# Altium schematic symbol library Bootcamp SchLib.SchLib: 28 symbols
Pins are listed as number, name and electrical type; pins without a type are passive.

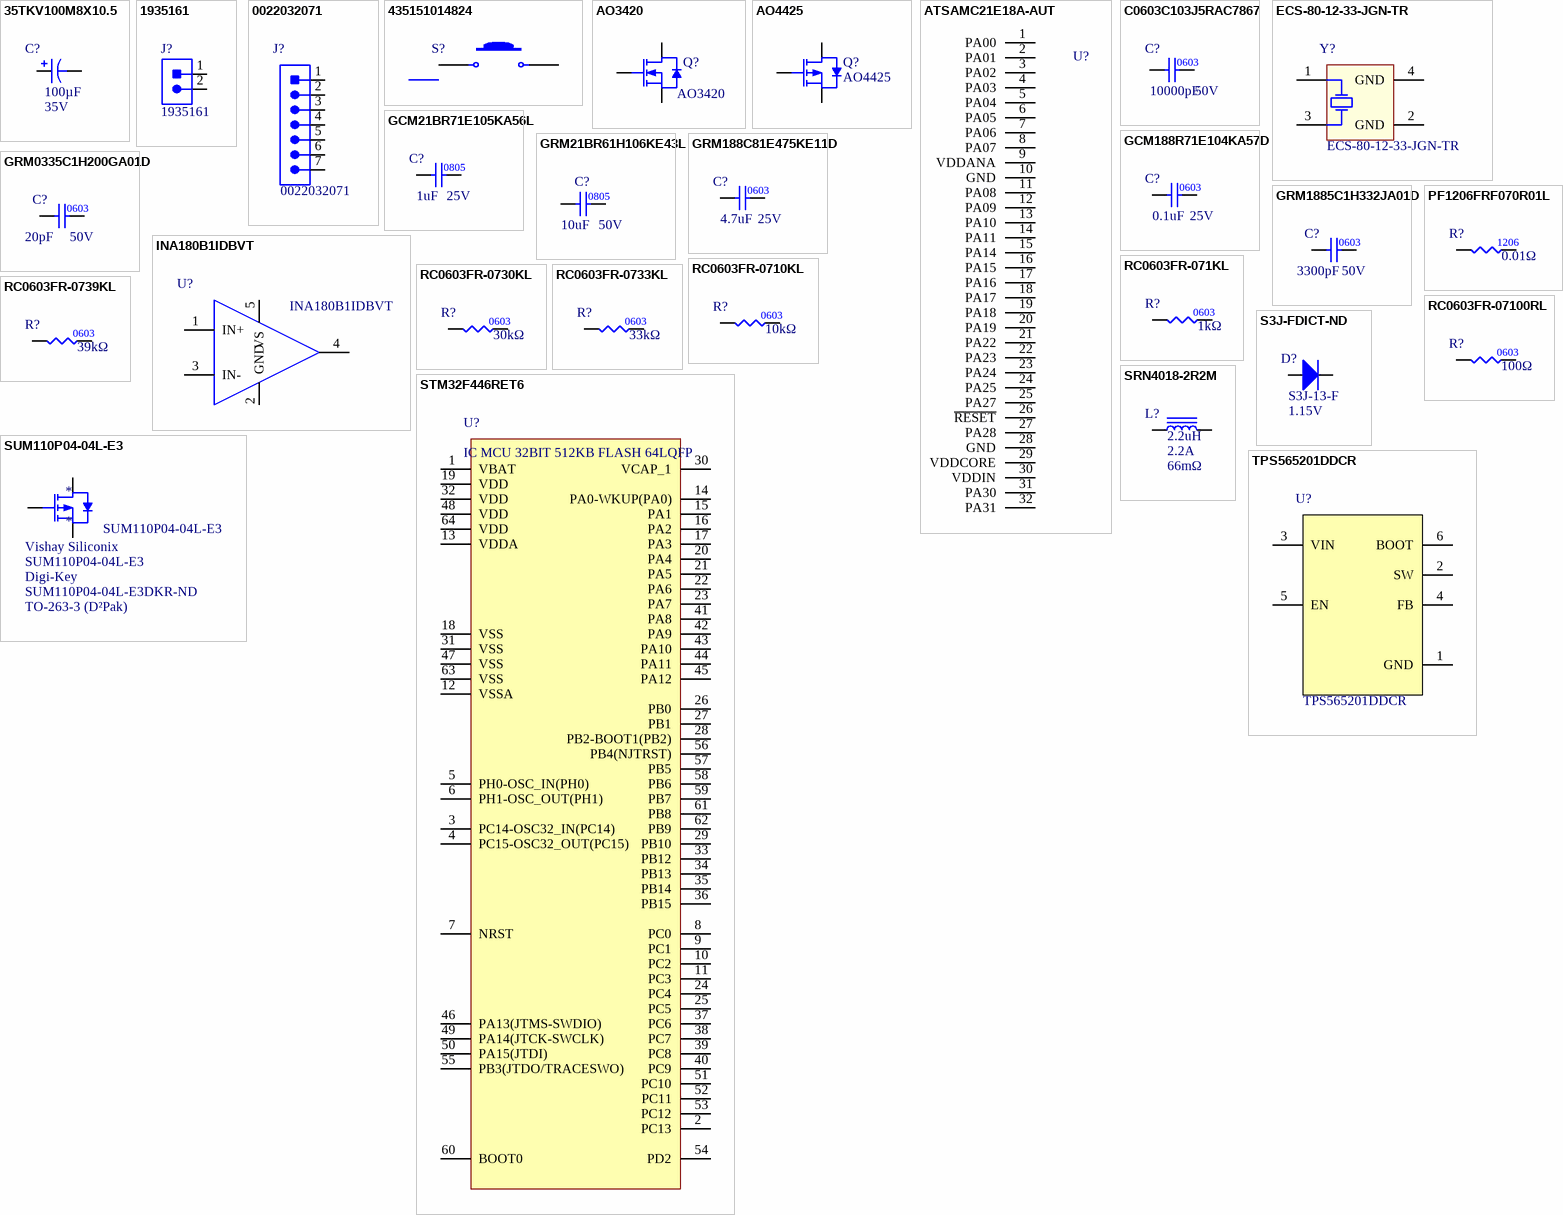
[diagram p0: symbols 35TKV100M8X10.5 to TPS565201DDCR]

## 35TKV100M8X10.5
designator C?, comment value 100µF  Voltage Rating: 35V  (hidden comment: CAP ALUM 100UF 20% 35V SMD)
Manufacturer 1: Rubycon; Manufacturer Part Number 1: 35TKV100M8X10.5; Mounting Type: SMD; Supplier 1: Digi-Key; Supplier Part Number 1: 1189-2074-1-ND; Tolerance: ±20%
footprint RADIAL_CORNELL_D (Size D radial surface mount capacitor)
pins: 1, 2

## 1935161
designator J?, comment Manufacturer Part Number 1: 1935161  (hidden comment: CON_2POS_SCREW_TERM)
CONN SCREW TERMINAL 2X1 5MM RA TH; Manufacturer 1: Phoenix Contact; Supplier 1: Digi-Key; Mounting Type: TH; Supplier Part Number 1: 277-1667-ND; Pitch: 5mm
footprint 1935161 (TERM BLK 2POS SIDE ENTRY 5MM PCB)
pins: 1, 2

## 0022032071
designator J?, comment Manufacturer Part Number 1: 0022032071  (hidden comment: CONN HEADER VERT 7POS 2.54MM)
Manufacturer 1: Molex; Number of Positions: 7; Mounting Type: Through Hole; Pitch: 2.54mm; Number of Rows: 1; Connector Type: Header; Contact Type: Male Pin; Supplier 1: Digi-Key; Supplier Part Number 1: WM4005-ND
footprint 0022284070 (CONN HEADER VERT 7POS 2.54MM)
pins: 1, 2, 3, 4, 5, 6, 7

## 435151014824
designator S?  (value not drawn)
SMT 3.0 X 2.6 MM TACT SWITCH WIT; Manufacturer 1: Würth Elektronik; Supplier 1: Digi-Key; Supplier Part Number 1: 732-435151014824CT-ND; Manufacturer Part Number 1: 435151014824
footprint 435151014824
pins: 1, 2

## AO3420
designator Q?, comment Manufacturer Part Number 1: AO3420  (hidden comment: MOSFET N-CH 20V 6A SOT23-3L)
Manufacturer 1: Alpha & Omega Semiconductor Inc.; Gate to Source Voltage (Vgs) Max. @ Vgs = 4.5V: ±12V; FET Type: N-Channel; Drain to Source Resistance On (Rds(on)) Max.: 24mΩ; Gate to Source Voltage Threshold (Vgs(th)) Max.: 1V; Supplier 1: Digi-Key; Supplier Part Number 1: 785-1014-1-ND; Drain to Source Voltage (Vdss) Max.: 20V; Mounting Type: SMD; Package: SOT23-3; Continuous Drain Current (Id) TA=25°C: 6A
footprint SOT23-3 (SOT23, 3-Leads, Body 2.90x2.30mm, Pitch 0.95mm, IPC Medium Density)
pins: 1 Source, 2 Gate, 3 Drain

## AO4425
designator Q?, comment Manufacturer Part Number 1: AO4425  (hidden comment: MOSFET P-CH 38V 14A 8SOIC)
Manufacturer 1: Alpha & Omega Semiconductor Inc.; Drain to Source Voltage (Vdss) Max.: -38V; Gate to Source Voltage (Vgs): ±25V; Continuous Drain Current (Id): -14A; Drain to Source Resistance (Rds(on)) Max.: 13.5mΩ; Gate Charge Total: 63nC; Gate Threshold Voltage (Vgs(th)): -3.5V; Supplier 1: Digi-Key; Supplier Part Number 1: 785-1026-1-ND; Package: 8-SOIC
footprint 8-SOIC (8-SOIC (0.154", 3.90mm Width))
pins: 1 Source, 2 Gate, 3 Drain

## ATSAMC21E18A-AUT
designator U?, comment IC MCU 32BIT 256KB FLASH 32TQFP  (value not drawn)
Manufacturer 1: Microchip Technology; Supplier Part Number 1: ATSAMC21E18A-AUTCT-ND; Supplier 1: Digi-Key
footprint SOT23-5
pins: 1 PA00, 2 PA01, 3 PA02, 4 PA03, 5 PA04, 6 PA05, 7 PA06, 8 PA07, 9 VDDANA, 10 GND, 11 PA08, 12 PA09, 13 PA10, 14 PA11, 15 PA14, 16 PA15, 17 PA16, 18 PA17, 19 PA18, 20 PA19, 21 PA22, 22 PA23, 23 PA24, 24 PA25, 25 PA27, 26 ~{RESET}, 27 PA28, 28 GND, 29 VDDCORE, 30 VDDIN, 31 PA30, 32 PA31

## C0603C103J5RAC7867
designator C?, comment value 10000pF  Voltage Rating: 50V  (hidden comment: CAP CER 10000PF 50V X7R 0603)
Manufacturer 1: KEMET; Manufacturer Part Number 1: C0603C103J5RAC7867; Tolerance: ±5%; Package: 0603; Mounting Type: SMD; Temperature Coefficient: X7R; Supplier 1: Digi-Key; Supplier Part Number 1: 399-C0603C103J5RAC7867CT-ND
footprint CAP0603 (CAP0603 SMD)
pins: 1, 2

## ECS-80-12-33-JGN-TR
designator Y?, comment Manufacturer Part Number 1: ECS-80-12-33-JGN-TR  (hidden comment: CRYSTAL 8MHZ 12PF SMD)
8 MHz ±20ppm Crystal 12pF 400 Ohms 4-SMD; Manufacturer 1: ECS Inc.; Frequency Tolerance: ±10ppm; Load Capacitance: 10pF; Equivalent Series Resistance: 50Ω; Supplier Part Number 1: XC3065CT-ND; Supplier 1: Digi-Key; Frequency: 8MHz; Frequency Stability: ±20ppm
pins: 1 IN/OUT, 2 GND (power), 3 OUT/IN, 4 GND

## GCM21BR71E105KA56L
designator C?, comment value 1uF  Voltage: 25V  (hidden comment: CAP CER 1UF 25V X7R ±10% 0805)
Manufacturer Part Number 1: GCM21BR71E105KA56L; Manufacturer 1: Murata Electronics; Supplier 1: Digi-Key; Supplier Part Number 1: 490-4785-1-ND; Temperature Coefficient: X7R; Tolerance: ±10%; Mounting Type: SMD; Package: 0805
footprint CAP0805 (CAP0805 SMD)
pins: 1, 2

## GCM188R71E104KA57D
designator C?, comment value 0.1uF  Voltage: 25V  (hidden comment: CAP CER 0.1UF 25V X7R ±10% 0603)
Manufacturer Part Number 1: GCM188R71E104KA57D; Manufacturer 1: Murata Electronics; Supplier 1: Digi-Key; Supplier Part Number 1: 490-6051-1-ND; Temperature Coefficient: X7R; Package: 0603; Tolerance: ±10%; Mounting Type: SMD
footprint CAP0603 (CAP0603 SMD)
pins: 1, 2

## GRM21BR61H106KE43L
designator C?, comment value 10uF  Voltage: 50V  (hidden comment: CAP CER 10UF 50V X5R ±10% 0805)
Manufacturer 1: Murata Electronics; Manufacturer Part Number 1: GRM21BR61H106KE43L; Supplier 1: Digi-Key; Supplier Part Number 1: 490-18663-1-ND; Temperature Coefficient: X5R; Package: 0805; Mounting Type: Surface Mount; Tolerance: ±10%
footprint CAP0805 (CAP0805 SMD)
pins: 1, 2

## GRM188C81E475KE11D
designator C?, comment value 4.7uF  Voltage: 25V  (hidden comment: CAP CER 4.7UF 25V X6S ±10% 0603)
Manufacturer Part Number 1: GRM188C81E475KE11D; Manufacturer 1: Murata Electronics; Supplier 1: Digi-Key; Supplier Part Number 1: 490-7199-1-ND; Tolerance: ±10%; Temperature Coefficient: X6S; Mounting Type: SMD; Package: 0603
footprint CAP0603 (CAP0603 SMD)
pins: 1, 2

## GRM0335C1H200GA01D
designator C?, comment value 20pF  Voltage Rating: 50V  (hidden comment: CAP CER 20PF 50V C0G/NP0 0201)
Manufacturer 1: Murata Electronics; Manufacturer Part Number 1: GRM1885C1H332JA01D; Tolerance: ±5%; Temperature Coefficient: C0G; Supplier 1: Digi-Key; Mounting Type: SMD; Package: 0603; ComponentLink1URL: https://datasheet.ciiva.com/6270/product-6270530.pdf?src-supplier=Digi-Key; ComponentLink1Description: https://datasheet.ciiva.com/6270/product-6270530.pdf?src-supplier=Digi-Key; ComponentLink2URL: https://datasheet.ciiva.com/29202/450783-da-01-en-vs-kondensator-0603-29202805.pdf?src-supplier=Conrad; ComponentLink2Description: https://datasheet.ciiva.com/29202/450783-da-01-en-vs-kondensator-0603-29202805.pdf?src-supplier=Conrad; ComponentLink3URL: https://datasheet.ciiva.com/5417/product-5417082.pdf?src-supplier=Mouser; ComponentLink3Description: https://datasheet.ciiva.com/5417/product-5417082.pdf?src-supplier=Mouser; Supplier Part Number 1: 490-6385-1-ND
footprint CAP0603 (Ceramic Capacitor 0603)
pins: 1, 2

## GRM1885C1H332JA01D
designator C?, comment value 3300pF  Voltage Rating: 50V  (hidden comment: CAP CER 3300PF 50V C0G/NP0 0603)
Manufacturer 1: Murata Electronics; Manufacturer Part Number 1: GRM1885C1H332JA01D; Tolerance: ±5%; Temperature Coefficient: C0G; Supplier 1: Digi-Key; Mounting Type: SMD; Package: 0603; ComponentLink1URL: https://datasheet.ciiva.com/6270/product-6270530.pdf?src-supplier=Digi-Key; ComponentLink1Description: https://datasheet.ciiva.com/6270/product-6270530.pdf?src-supplier=Digi-Key; ComponentLink2URL: https://datasheet.ciiva.com/29202/450783-da-01-en-vs-kondensator-0603-29202805.pdf?src-supplier=Conrad; ComponentLink2Description: https://datasheet.ciiva.com/29202/450783-da-01-en-vs-kondensator-0603-29202805.pdf?src-supplier=Conrad; ComponentLink3URL: https://datasheet.ciiva.com/5417/product-5417082.pdf?src-supplier=Mouser; ComponentLink3Description: https://datasheet.ciiva.com/5417/product-5417082.pdf?src-supplier=Mouser; Supplier Part Number 1: 490-6385-1-ND
footprint CAP0603 (Ceramic Capacitor 0603)
pins: 1, 2

## INA180B1IDBVT
designator U?, comment Manufacturer Part Number 1: INA180B1IDBVT  (hidden comment: IC CURR SENSE 1 CIRCUIT SOT23-5)
Manufacturer 1: Texas Instruments; Supplier Part Number 1: 296-46631-1-ND; Supplier 1: Digi-Key
footprint SOT23-5
pins: 1 IN+, 2 GND, 3 IN-, 4 OUT, 5 VS (power)

## PF1206FRF070R01L
designator R?, comment value 0.01Ω  (hidden comment: RES 0.01 OHM 1% 1/4W 1206)
Manufacturer Part Number 1: PF1206FRF070R01L; Manufacturer 1: YAGEO; Supplier 1: Digi-Key; Supplier Part Number 1: 311-0.01AJCT-ND; Package: 1206; Tolerance: ±1%; Power Rating: 1/4W; Mounting Type: SMD
footprint RES1206 (RES1206 SMD)
pins: 1, 2

## RC0603FR-071KL
designator R?, comment value 1kΩ  (hidden comment: RES 1K OHM 1% 1/10W 0603)
Manufacturer Part Number 1: RC0603FR-071KL; Manufacturer 1: YAGEO; Supplier 1: Digi-Key; Supplier Part Number 1: 311-1.00KHRCT-ND; Package: 0603; Tolerance: ±1%; Power Rating: 1/10W; Mounting Type: SMD
footprint RES0603 (RES0603 SMD)
pins: 1, 2

## RC0603FR-0710KL
designator R?, comment value 10kΩ  (hidden comment: RES 10K OHM 1% 1/10W 0603)
Manufacturer Part Number 1: RC0603FR-0710KL; Manufacturer 1: YAGEO; Supplier 1: Digi-Key; Supplier Part Number 1: 311-10.0KHRCT-ND; Package: 0603; Tolerance: ±1%; Power Rating: 1/10W; Mounting Type: SMD
footprint RES0603 (RES0603 SMD)
pins: 1, 2

## RC0603FR-0730KL
designator R?, comment value 30kΩ  (hidden comment: RES 30K OHM 1% 1/10W 0603)
Manufacturer Part Number 1: RC0603FR-0730KL; Manufacturer 1: YAGEO; Supplier 1: Digi-Key; Supplier Part Number 1: 311-30.0KHRCT-ND; Package: 0603; Tolerance: ±1%; Power Rating: 1/10W; Mounting Type: SMD
footprint RES0603 (RES0603 SMD)
pins: 1, 2

## RC0603FR-0733KL
designator R?, comment value 33kΩ  (hidden comment: RES 33K OHM 1% 1/10W 0603)
Manufacturer Part Number 1: RC0603FR-0730KL; Manufacturer 1: YAGEO; Supplier 1: Digi-Key; Supplier Part Number 1: 311-30.0KHRCT-ND; Package: 0603; Tolerance: ±1%; Power Rating: 1/10W; Mounting Type: SMD
footprint RES0603 (RES0603 SMD)
pins: 1, 2

## RC0603FR-0739KL
designator R?, comment value 39kΩ  (hidden comment: RES 39K OHM 1% 1/10W 0603)
Manufacturer Part Number 1: RC0603FR-0730KL; Manufacturer 1: YAGEO; Supplier 1: Digi-Key; Supplier Part Number 1: 311-30.0KHRCT-ND; Package: 0603; Tolerance: ±1%; Power Rating: 1/10W; Mounting Type: SMD
footprint RES0603 (RES0603 SMD)
pins: 1, 2

## RC0603FR-07100RL
designator R?, comment value 100Ω  (hidden comment: RES 100 OHM 1% 1/10W 0603)
Manufacturer Part Number 1: RC0603FR-07100RL; Manufacturer 1: YAGEO; Supplier 1: Digi-Key; Supplier Part Number 1: 311-100HRCT-ND; Package: 0603; Tolerance: ±1%; Power Rating: 1/10W; Mounting Type: SMD
footprint RES0603 (RES0603 SMD)
pins: 1, 2

## S3J-FDICT-ND
designator D?, comment Forward Voltage: 1.15V  Manufacturer Part Number 1: S3J-13-F  (hidden comment: DIODE GEN PURP 600V 3A SMC)
Manufacturer 1: Diodes Incorporated; Reverse Leakage Current: 10 μA @ 600V; Package: SMC; Mounting Type: Surface Mount; Supplier Part Number 1: S3J-FDICT-ND; Continuous Reverse Voltage (Max): 600V; Average Rectified Current: 3A; Supplier 1: Digi-Key
footprint SMC
pins: 1 A, 2 K

## SRN4018-2R2M
designator L?, comment value 2.2uH  Current Rating: 2.2A  DC Resistance: 66mΩ  (hidden comment: FIXED IND 2.2UH 2.9A 44 MOHM SMD)
Manufacturer 1: Bourns Inc.; Manufacturer Part Number 1: SRN4018-3R3M; Supplier 1: Digi-Key; Supplier Part Number 1: SRN4018-3R3MCT-ND; Mounting Type: SMD
pins: 1, 2

## STM32F446RET6
designator U?, comment IC MCU 32BIT 512KB FLASH 64LQFP
Manufacturer 1: STMicroelectronics; Manufacturer Part Number 1: STM32F446RET6; Supplier 1: Digi-Key; Supplier Part Number 1: 497-15376-ND
footprint STM_LQFP64_N (Thin QFP, 64-Leads, Body 10x10mm, Pitch 0.5mm, IPC Medium Density)
pins: 1 VBAT, 2 PC13 "PC13/EVENTOUT/TAMP_1/WKUP1", 3 PC14-OSC32_IN(PC14) "PC14/EVENTOUT/OSC32_IN", 4 PC15-OSC32_OUT(PC15) "PC15/EVENTOUT/OSC32_OUT", 5 PH0-OSC_IN(PH0) "PH0/EVENTOUT/OSC_IN", 6 PH1-OSC_OUT(PH1) "PH1/EVENTOUT/OSC_OUT", 7 NRST, 8 PC0 "PC0/SAI1_MCLK_B,OTG_HS_ULPI_STP,FMC_SDNWE,EVENTOUT/ADC123_IN10", 9 PC1 "PC1/SPI3_MOSI/I2S3_SD,SAI1_SD_A,SPI2_MOSI/I2S2_SD,EVENTOUT/ADC123_IN11", 10 PC2 "PC2/SPI2_MISO,OTG_HS_ULPI_DIR,FMC_SDNE0,EVENTOUT/ADC123_IN12", 11 PC3 "PC3/SPI2_MOSI/I2S2_SD,OTG_HS_ULPI_NXT,FMC_SDCKE0,EVENTOUT/ADC123_IN13", 12 VSSA, 13 VDDA, 14 PA0-WKUP(PA0) "PA0-WKUP(PA0)/TIM2_CH1/TIM2_ETR,TIM5_CH1,TIM8_ETR,USART2_CTS,UART4_TX,EVENTOUT/ADC123_IN0,WKUP0/TAMP_2", 15 PA1 "PA1/TIM2_CH2,TIM5_CH2,USART2_RTS,UART4_RX,QUADSPI_BK1_IO3,SAI2_MCLK_B,EVENTOUT/ADC123_IN1", 16 PA2 "PA2/TIM2_CH3,TIM5_CH3,TIM9_CH1,USART2_TX,SAI2_SCK_B,EVENTOUT/ADC123_IN2", 17 PA3 "PA3/TIM2_CH4,TIM5_CH4,TIM9_CH2,SAI1_FS_A,USART2_RX,OTG_HS_ULPI_D0,EVENTOUT/ADC123_IN3", 18 VSS, 19 VDD, 20 PA4 "PA4/SPI1_NSS/I2S1_WS,SPI3_NSS/I2S3_WS,USART2_CK,OTG_HS_SOF,DCMI_HSYNC,EVENTOUT/ADC12_IN4,DAC_OUT1", 21 PA5 "PA5/TIM2_CH1/TIM2_ETR,TIM8_CH1N,SPI1_SCK/I2S1_CK,OTG_HS_ULPI_CK,EVENTOUT/ADC12_IN5,DAC_OUT2", 22 PA6 "PA6/TIM1_BKIN,TIM3_CH1,TIM8_BKIN,SPI1_MISO,I2S2_MCK,TIM13_CH1,DCMI_PIXCLK,EVENTOUT/ADC12_IN6", 23 PA7 "PA7/TIM1_CH1N,TIM3_CH2,TIM8_CH1N,SPI1_MOSI/I2S1_SD,TIM14_CH1,FMC_SDNWE,EVENTOUT/ADC12_IN7", 24 PC4 "PC4/I2S1_MCK,SPDIFRX_IN2,FMC_SDNE0,EVENTOUT/ADC12_IN14", 25 PC5 "PC5/USART3_RX,SPDIFRX_IN3,FMC_SDCKE0,EVENTOUT/ADC12_IN15", 26 PB0 "PB0/TIM1_CH2N,TIM3_CH3,TIM8_CH2N,SPI3_MOSI/I2S3_SD,UART4_CTS,OTG_HS_ULPI_D1,SDIO_D1,EVENTOUT/ADC12_IN8", 27 PB1 "PB1/TIM1_CH3N,TIM3_CH4,TIM8_CH3N,OTG_HS_ULPI_D2,SDIO_D2,EVENTOUT/ADC12_IN9", 28 PB2-BOOT1(PB2) "PB2-BOOT1(PB2)/TIM2_CH4,SAI1_SD_A,SPI3_MOSI/I2S3_SD,QUADSPI_CLK,OTG_HS_ULPI_D4,SDIO_CK,EVENTOUT", 29 PB10 "PB10/TIM2_CH3,I2C2_SCL,SPI2_SCK/I2S2_CK,SAI1_SCK_A,USART3_TX,OTG_HS_ULPI_D3,EVENTOUT", 30 VCAP_1, 31 VSS, 32 VDD, 33 PB12 "PB12/TIM1_BKIN,I2C2_SMBA,SPI2_NSS/I2S2_WS,SAI1_SCK_B,USART3_CK,CAN2_RX,OTG_HS_ULPI_D5,OTG_HS_ID,EVENTOUT", 34 PB13 "PB13/TIM1_CH1N,SPI2_SCK/I2S2_CK,USART3_CTS,CAN2_TX,OTG_HS_ULPI_D6,EVENTOUT/OTG_HS_VBUS", 35 PB14 "PB14/TIM1_CH2N,TIM8_CH2N,SPI2_MISO,USART3_RTS,TIM12_CH1,OTG_HS_DM,EVENTOUT", 36 PB15 "PB15/RTC_REFIN,TIM1_CH3N,TIM8_CH3N,SPI2_MOSI/I2S2_SD,TIM12_CH2,OTG_HS_DP,EVENTOUT", 37 PC6 "PC6/TIM3_CH1,TIM8_CH1,FMPI2C1_SCL,I2S2_MCK,USART6_TX,SDIO_D6,DCMI_D0,EVENTOUT", 38 PC7 "PC7/TIM3_CH2,TIM8_CH2,FMPI2C1_SDA,SPI2_SCK/I2S2_CK,I2S3_MCK,SPDIFRX_IN1,USART6_RX,SDIO_D7,DCMI_D1,EVENTOUT", 39 PC8 "PC8/TRACED0,TIM3_CH3,TIM8_CH3,UART5_RTS,USART6_CK,SDIO_D0,DCMI_D2,EVENTOUT", 40 PC9 "PC9/MCO2,TIM3_CH4,TIM8_CH4,I2C3_SDA,I2S_CKIN,UART5_CTS,QUADSPI_BK1_IO0,SDIO_D1,DCMI_D3,EVENTOUT", 41 PA8 "PA8/MCO1,TIM1_CH1,I2C3_SCL,USART1_CK,OTG_FS_SOF,EVENTOUT", 42 PA9 "PA9/TIM1_CH2,I2C3_SMBA,SPI2_SCK/I2S2_CK,SAI1_SD_B,USART1_TX,DCMI_D0,EVENTOUT/OTG_FS_VBUS", 43 PA10 "PA10/TIM1_CH3,USART1_RX,OTG_FS_ID,DCMI_D1,EVENTOUT", 44 PA11 "PA11/TIM1_CH4,USART1_CTS,CAN1_RX,OTG_FS_DM,EVENTOUT", 45 PA12 "PA12/TIM1_ETR,USART1_RTS,SAI2_FS_B,CAN1_TX,OTG_FS_DP,EVENTOUT", 46 PA13(JTMS-SWDIO) "PA13/JTMS-SWDIO,EVENTOUT", 47 VSS, 48 VDD, 49 PA14(JTCK-SWCLK) "PA14/JTCK-SWCLK,EVENTOUT", 50 PA15(JTDI) "PA15/JTDI,TIM2_CH1/TIM2_ETR,HDMI_CEC,SPI1_NSS/I2S1_WS,SPI3_NSS/I2S3_WS,UART4_RTS,EVENTOUT", 51 PC10 "PC10/SPI3_SCK/I2S3_CK,USART3_TX,UART4_TX,QUADSPI_BK1_IO1,SDIO_D2,DCMI_D8,EVENTOUT", 52 PC11 "PC11/SPI3_MISO,USART3_RX,UART4_RX,QUADSPI_BK2_NCS,SDIO_D3,DCMI_D4,EVENTOUT", 53 PC12 "PC12/I2C2_SDA,SPI3_MOSI/I2S3_SD,USART3_CK,UART5_TX,SDIO_CK,DCMI_D9,EVENTOUT", 54 PD2 "PD2/TIM3_ETR,UART5_RX,SDIO_CMD,DCMI_D11,EVENTOUT", 55 PB3(JTDO/TRACESWO) "PB3/JTDO/TRACESWO,TIM2_CH2,I2C2_SDA,SPI1_SCK/I2S1_CK,SPI3_SCK/I2S3_CK,EVENTOUT", 56 PB4(NJTRST) "PB4/NJTRST,TIM3_CH1,I2C3_SDA,SPI1_MISO,SPI3_MISO,SPI2_NSS/I2S2_WS,EVENTOUT", 57 PB5 "PB5/TIM3_CH2,I2C1_SMBA,SPI1_MOSI/I2S1_SD,SPI3_MOSI/I2S3_SD,CAN2_RX,OTG_HS_ULPI_D7,FMC_SDCKE1,DCMI_D10,EVENTOUT", 58 PB6 "PB6/TIM4_CH1,HDMI_CEC,I2C1_SCL,USART1_TX,CAN2_TX,QUADSPI_BK1_NCS,FMC_SDNE1,DCMI_D5,EVENTOUT", 59 PB7 "PB7/TIM4_CH2,I2C1_SDA,USART1_RX,SPDIFRX_IN0,FMC_NL,DCMI_VSYNC,EVENTOUT", 60 BOOT0 "BOOT0/VPP", 61 PB8 "PB8/TIM2_CH1/TIM2_ETR,TIM4_CH3,TIM10_CH1,I2C1_SCL,CAN1_RX,SDIO_D4,DCMI_D6,EVENTOUT", 62 PB9 "PB9/TIM2_CH2,TIM4_CH4,TIM11_CH1,I2C1_SDA,SPI2_NSS/I2S2_WS,SAI1_FS_B,CAN1_TX,SDIO_D5,DCMI_D7,EVENTOUT", 63 VSS, 64 VDD

## SUM110P04-04L-E3
designator *  Manufacturer 1: Vishay Siliconix  Manufacturer Part Number 1: SUM110P04-04L-E3  Supplier 1: Digi-Key  Supplier Part Number 1: SUM110P04-04L-E3DKR-ND  Package: TO-263-3 (D²Pak)
MOSFET P-CH 40V 110A TO263
footprint TO-263 (D²Pak) (TO-263-3, D²Pak (2 Leads + Tab), TO-263AB)
pins: 1 Source, 2 Gate, 3 Drain

## TPS565201DDCR
designator U?, comment Manufacturer Part Number 1: TPS565201DDCR  (hidden comment: IC REG BUCK ADJ 5A TSOT23-6)
Manufacturer 1: Texas Instruments; Supplier 1: Digi-Key; Supplier Part Number 1: 296-49006-1-ND; Mounting Type: Surface Mount; Package: SOT-23-6
footprint SOT23-6
pins: 1 GND "Ground", 2 SW "Switch node", 3 VIN "Input voltage", 4 FB "Feedback", 5 EN "Enable. Active high", 6 BOOT "Bootstrap"